# EAGLE library part 62101421921 (library Header_R_ESP32)
2.00mm SMT Straight Dual Pin Header WR-PHD Manufacturer's datasheet <https://katalog.we-online.com/em/datasheet/62101421921.pdf>
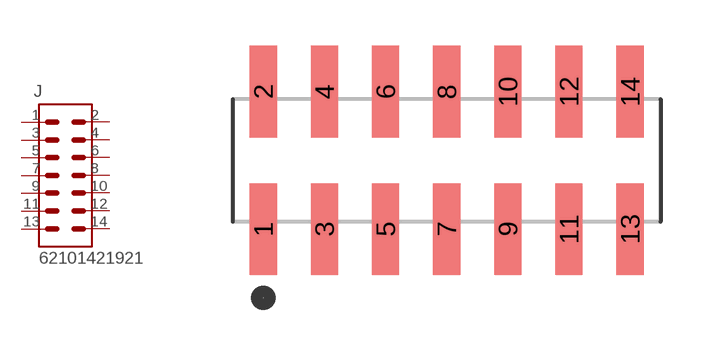
[diagram p8: symbol with the pads of 62101421921; footprint 62101421921]

Designator prefix J

## 62101421921 (CREATED_BY: PCBLayout.com; MANUFACTURER: Wurth Elektronik; MPN: 62101421921)  [62101421921]
1  1  pas
2  2  pas
3  3  pas
4  4  pas
5  5  pas
6  6  pas
7  7  pas
8  8  pas
9  9  pas
10  10  pas
11  11  pas
12  12  pas
13  13  pas
14  14  pas

## Footprint 62101421921 (pad centres in mm)
smd 0.89 x 3: 1 -6,-2.25; 2 -6,2.25; 3 -4,-2.25; 4 -4,2.25; 5 -2,-2.25; 6 -2,2.25; 7 0,-2.25; 8 0,2.25; 9 2,-2.25; 10 2,2.25; 11 4,-2.25; 12 4,2.25; 13 6,-2.25; 14 6,2.25